# Altium schematic symbol library ABRACON CRYSTAL ABS25.SchLib: 1 symbol
Pins are listed as number, name and electrical type; pins without a type are passive.

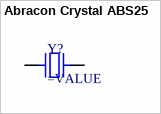
[diagram p0: symbol Abracon Crystal ABS25]

## Abracon Crystal ABS25
designator Y?
SMT Crystal
pins: 1, 4